# Altium footprint library axsem_switches_v1-3.PCBLIB: 8 footprints
Each footprint in its own frame and in the unit in brackets; x right, y up, seen from the top. Pads: shape width x height; smd on the part's side, far side on the other; paste and mask are expansions set on the pad; w line width, h text height; cw(c..) or ccw(c..) is an arc to the next point about the centre after c.
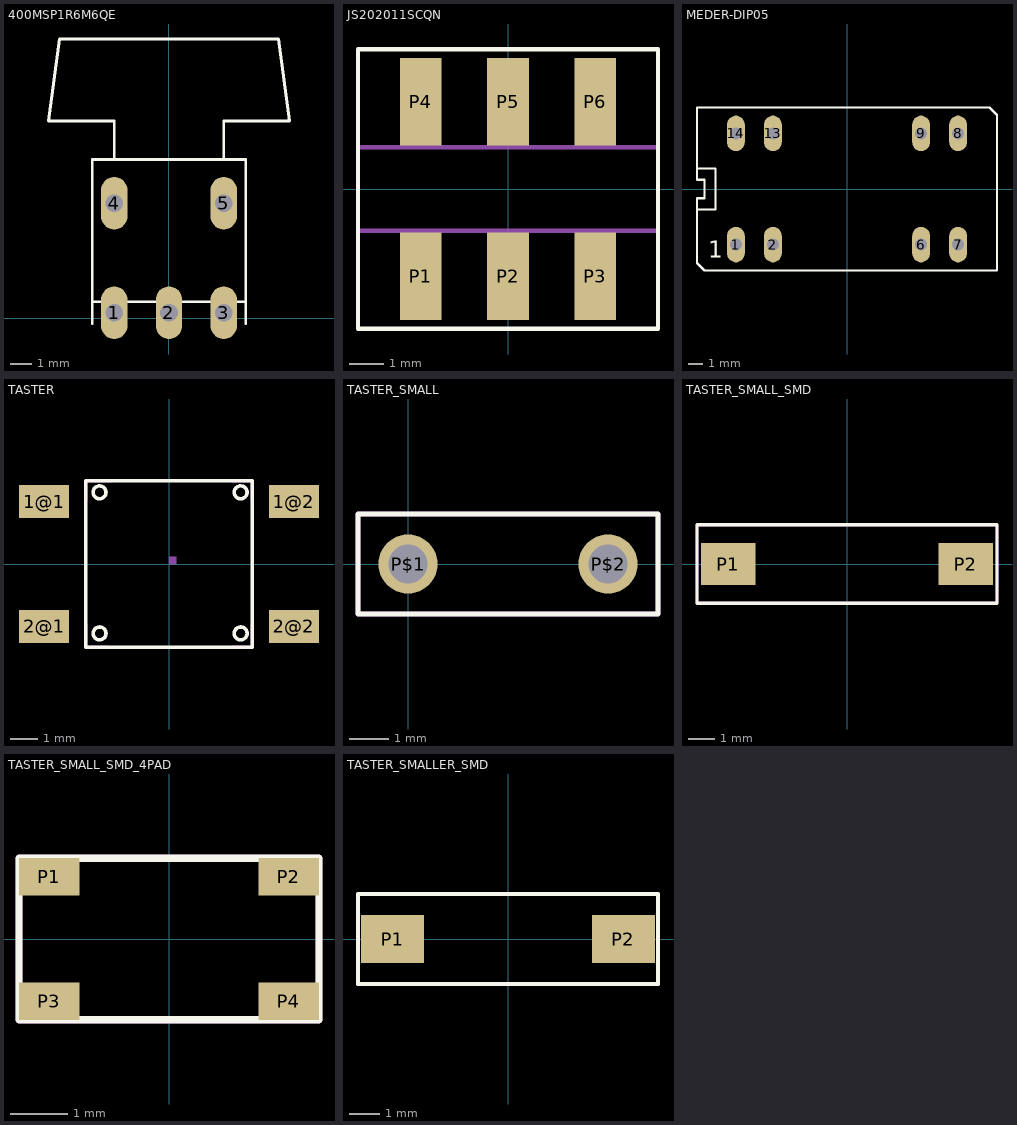
[diagram p0: the footprints below, top view; thin cyan lines are the x and y axes]

## 400MSP1R6M6QE [mil]
pads (5):
  oval 48x96 hole 32: 1(-100,10) 2(0,10) 3(100,10) 4(-100,210) 5(100,210)
Top Overlay:
  lines w5: -140,-10 -140,30 ; 140,-10 140,30 ; -140,30 -140,290 -100,290 ; -140,30 140,30 ; -100,290 100,290 ; -100,290 -100,360 -220,360 -200,510 200,510 220,360 100,360 100,290 ; 100,290 140,290 140,30

## JS202011SCQN [mil]
pads (6):
  rect 47.24x98.43 smd: P1(-98.43,-98.43) P2(0,-98.43) P3(98.43,-98.43) P4(-98.43,98.43) P5(0,98.43) P6(98.43,98.43)
Top Overlay:
  lines w5: -169.29,-157.48 -169.29,157.48 169.29,157.48 169.29,-157.48 -169.29,-157.48
Mechanical 16:
  lines w5: -169.29,47.24 -169.29,-47.24 169.29,-47.24 169.29,47.24 -165.35,47.24

## MEDER-DIP05 [mil]
pads (8):
  oval 48x96 hole 32: 1(-300,-150) 2(-200,-150) 6(200,-150) 7(300,-150) 8(300,150) 9(200,150) 13(-200,150) 14(-300,150)
Top Overlay:
  lines w6: -405,-55 -355,-55 -355,55 -405,55 ; -405,-55 -405,-25 -385,-25 -385,25 -405,25 -405,55 ; -405,-55 -405,-200 -385,-220 -325,-220 325,-220 405,-220 405,200 385,220 325,220 -325,220 -405,220 -405,55
  text "1" at -375,-200 h77.5

## TASTER [mil]
pads (4):
  rect 70.87x47.24 smd: 1@1(-177.17,88.58) 1@2(177.17,88.58) 2@1(-177.17,-88.58) 2@2(177.17,-88.58)
Top Overlay:
  circle w5: c-98.43,-98.43 r9.13
  circle w5: c-98.43,101.57 r9.13
  circle w5: c101.57,101.57 r9.13
  circle w5: c101.57,-98.43 r9.13
  lines w5: -118.11,-118.11 -118.11,118.11 118.11,118.11 118.11,-118.11 -118.11,-118.11
Mechanical 16:
  region: 0,0 10,0 10,10 0,10
  lines w5: -118.11,-86.61 -118.11,-118.11 -86.61,-118.11 ; -118.11,90.55 -118.11,118.11 -82.68,118.11 ; 90.55,-118.11 118.11,-118.11 118.11,-86.61 ; 90.55,118.11 118.11,118.11 118.11,90.55

## TASTER_SMALL [mm]
pads (2):
  round 1.5 hole 1: P$1(0,0) P$2(5.08,0)
Top Overlay:
  lines w0.127: -1.27,-1.27 -1.27,1.27 6.35,1.27 6.35,-1.27 -1.27,-1.27
Mechanical 16:
  lines w0.127: -1.27,-1.27 -1.27,1.27 6.35,1.27 6.35,-1.27 -1.27,-1.27

## TASTER_SMALL_SMD [mil]
pads (2):
  rect 82.68x62.99 smd: P1(-179.13,0) P2(179.13,0)
Top Overlay:
  lines w5: -226.18,-59.06 -226.18,59.06 226.18,59.06 226.18,-59.06 -226.18,-59.06
Mechanical 16:
  lines w5: -226.18,-59.06 -226.18,59.06 226.18,59.06 226.18,-59.06 -226.18,-59.06

## TASTER_SMALL_SMD_4PAD [mm]
pads (4):
  rect 1.05x0.65 smd: P1(-2.075,1.075) P2(2.075,1.075) P3(-2.075,-1.075) P4(2.075,-1.075)
Top Overlay:
  lines w0.127: -2.6,-1.4 -2.6,1.4 2.6,1.4 2.6,-1.4 -2.6,-1.4
Mechanical 16:
  lines w0.127: -2.6,-1.4 -2.6,1.4 2.6,1.4 2.6,-1.4 -2.6,-1.4

## TASTER_SMALLER_SMD [mil]
pads (2):
  rect 82.68x62.99 smd: P1(-151.57,0) P2(151.57,0)
Top Overlay:
  lines w5: -196.85,-59.06 -196.85,59.06 196.85,59.06 196.85,-59.06 -196.85,-59.06
Mechanical 16:
  lines w5: -196.85,-59.06 -196.85,59.06 196.85,59.06 196.85,-59.06 -196.85,-59.06